# Altium footprint library TO-PMOD-7.PcbLib: 1 footprints
Each footprint in its own frame and in the unit in brackets; x right, y up, seen from the top. Pads: shape width x height; smd on the part's side, far side on the other; paste and mask are expansions set on the pad; w line width, h text height; cw(c..) or ccw(c..) is an arc to the next point about the centre after c.
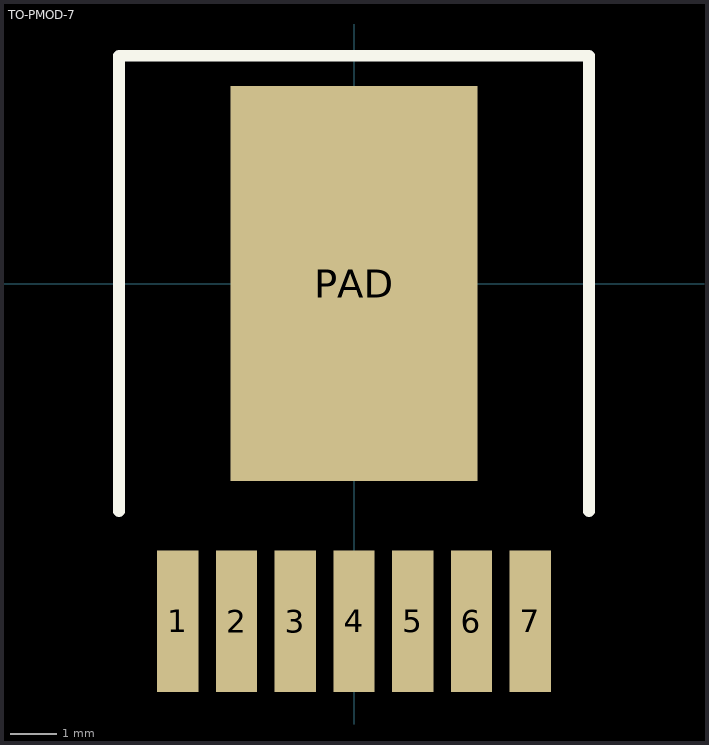
[diagram p0: the footprint, top view; thin cyan lines are the x and y axes]

## TO-PMOD-7 [mm]
pads (8):
  rect 0.89x3.06 smd: 1(-3.81,-7.305) 2(-2.54,-7.305) 3(-1.27,-7.305) 4(0,-7.305) 5(1.27,-7.305) 6(2.54,-7.305) 7(3.81,-7.305)
  rect 5.35x8.54 smd: PAD(0,0)
Top Overlay:
  lines w0.254: -5.08,-4.925 -5.08,4.925 5.08,4.925 5.08,-4.925
3D body: height 4.57, standoff 0, extent -5.08,-4.925 5.08,4.925
3D body: height 0.33, standoff 0, extent -0.345,-8.845 0.345,-4.925
3D body: height 0.33, standoff 0, extent -1.615,-8.845 -0.925,-4.925
3D body: height 0.33, standoff 0, extent -2.885,-8.845 -2.195,-4.925
3D body: height 0.33, standoff 0, extent -4.155,-8.845 -3.465,-4.925
3D body: height 0.33, standoff 0, extent 0.925,-8.845 1.615,-4.925
3D body: height 0.33, standoff 0, extent 2.195,-8.845 2.885,-4.925
3D body: height 0.33, standoff 0, extent 3.465,-8.845 4.155,-4.925